# Altium schematic symbol library nf10_addon.SchLib: 5 symbols
Pins are listed as number, name and electrical type; pins without a type are passive.

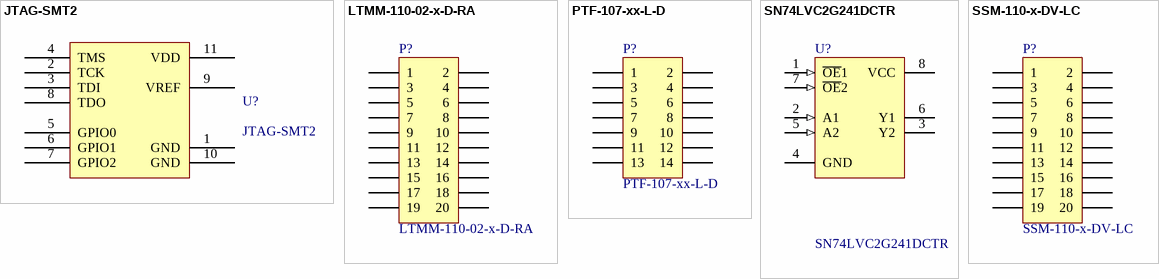
[diagram p0: symbols JTAG-SMT2 to SSM-110-x-DV-LC]

## JTAG-SMT2
designator U?
Digilent JTAG-SMT2 Module
footprint JTAG-SMT2
pins: 1 GND, 2 TCK, 3 TDI, 4 TMS, 5 GPIO0, 6 GPIO1, 7 GPIO2, 8 TDO, 9 VREF, 10 GND, 11 VDD

## LTMM-110-02-x-D-RA
designator P?
Samtec LTMM-110-02-x-D-RA; LatestRevisionDate: 17-Jul-2002; LatestRevisionNote: Re-released for DXP Platform.; Publisher: Altium Limited
signal-integrity model Connector
footprint LTMM-110-02-X-D-RA
pins: 1, 2, 3, 4, 5, 6, 7, 8, 9, 10, 11, 12, 13, 14, 15, 16, 17, 18, 19, 20

## PTF-107-xx-L-D
designator P?
Samtec PTF-107-xx-L-D; LatestRevisionDate: 17-Jul-2002; LatestRevisionNote: Re-released for DXP Platform.; Publisher: Altium Limited
signal-integrity model Connector
footprint PTF-107-XX-L-D
pins: 1, 2, 3, 4, 5, 6, 7, 8, 9, 10, 11, 12, 13, 14

## SN74LVC2G241DCTR
designator U?
Quadruple Bus Buffer Gate with 3- State Outputs; Published: 8-Jun-2000; LatestRevisionDate: 06-Jun-2005; LatestRevisionNote: Stylized 3D Model Added.; DatasheetVersion: May-1997; PackageVersion: Jan-1995; PackageReference: W014; Publisher: Altium Limited; PackageDescription: DFP; 14 Leads; Body 9.9 x 6.6 mm (LxW max); Pitch 1.27 mm; Code_JEDEC: MO-092-AB; ComponentLink1Description: Manufacturer Link; ComponentLink1URL: http://www.ti.com/; ComponentLink2Description: Datasheet; ComponentLink2URL: http://www-s.ti.com/sc/ds/sn54abt125.pdf
signal-integrity model SNJ54ABT125W
footprint DCT08_N
pins: 1 ~{OE}1 (in), 2 A1 (in), 3 Y2 (hiz), 4 GND (power), 5 A2 (in), 6 Y1 (hiz), 7 ~{OE}2 (in), 8 VCC (power)

## SSM-110-x-DV-LC
designator P?
Samtec SSM-110-x-DV-LC; LatestRevisionDate: 17-Jul-2002; LatestRevisionNote: Re-released for DXP Platform.; Publisher: Altium Limited
signal-integrity model Connector
footprint SSM-110-X-DV-LC
pins: 1, 2, 3, 4, 5, 6, 7, 8, 9, 10, 11, 12, 13, 14, 15, 16, 17, 18, 19, 20